# EAGLE library part MCP16311 (library we-power)
Microchip MCP1631X Step-Down (500kHz, 1A, 4.4-30V input) MCP16311 - PWM+PFM Operation (higher efficiency on lower loads) MCP16312 - PWM Operation (lower noise)
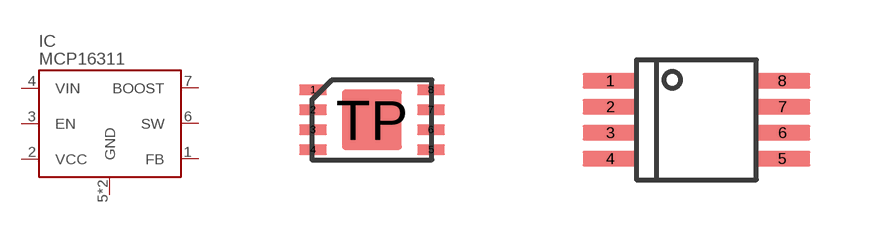
[diagram p5: symbol with the pads of UDFN8; footprints UDFN8, MSOP08]

Designator prefix IC

## MCP16311T-MNY  [UDFN8]
1  FB  pas
2  VCC  pwr
3  EN  in
4  VIN  pwr
5  GND  pwr
6  SW  pas
7  BOOST  pas
8  GND  pwr

## MCP16311T-MS  [MSOP08]
Pads as for UDFN8

## Footprint UDFN8 (pad centres in mm)
smd 0.7 x 0.28: 1 -1.475,0.75; 2 -1.475,0.25; 3 -1.475,-0.25; 4 -1.475,-0.75; 5 1.475,-0.75; 6 1.475,-0.25; 7 1.475,0.25; 8 1.475,0.75
smd 1.5 x 1.5: TP 0,0

## Footprint MSOP08 (pad centres in mm)
smd 1.4 x 0.4: 1 -2.15,0.975; 2 -2.15,0.325; 3 -2.15,-0.325; 4 -2.15,-0.975; 5 2.15,-0.975; 6 2.15,-0.325; 7 2.15,0.325; 8 2.15,0.975